# EAGLE library part TPS61085T (library 00_koarl-div)
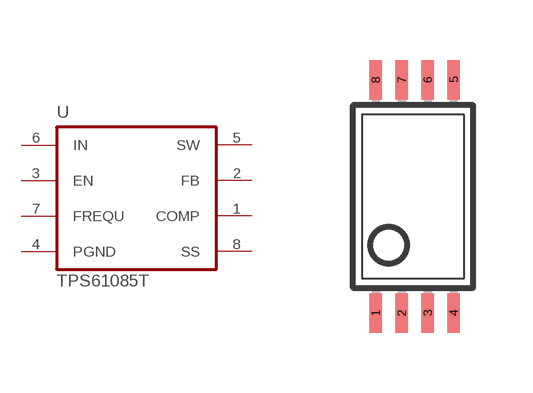
[diagram p9: symbol with the pads of TSSOP8; footprint TSSOP8]

Designator prefix -

## TPS61085TTSSOP8  [TSSOP8]
1  COMP
2  FB  in
3  EN  in
4  PGND  pwr
5  SW  pas
6  IN  pwr
7  FREQU  in
8  SS  pas

## Footprint TSSOP8 (pad centres in mm)
Thin Shrink Small Outline Plastic 8
smd 0.305 x 0.991: 1 -1.95,-2.918; 2 -1.3,-2.918; 3 -0.65,-2.918; 4 0,-2.918; 5 0,2.922; 6 -0.65,2.922; 7 -1.3,2.922; 8 -1.95,2.918